# EAGLE library part DISCRETE_BALUN (library PCB 3.0.0)
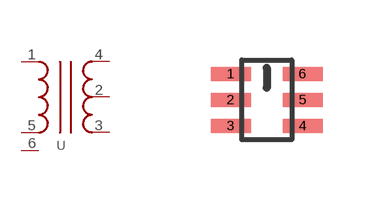
[diagram p1: symbol with the pads of DISCRETE_BALUN-0805; footprint DISCRETE_BALUN-0805]

Designator prefix -

## DISCRETE_BALUN  [DISCRETE_BALUN-0805]
1  1
2  2
3  3
4  4
5  5
6  6

## Footprint DISCRETE_BALUN-0805 (pad centres in mm)
smd 1 x 0.35: 1 -0.9,0.65; 2 -0.9,0; 3 -0.9,-0.65; 4 0.9,-0.65; 5 0.9,0; 6 0.9,0.65